# Altium footprint library firmware_tutorial_board.PcbLib: 8 footprints
Each footprint in its own frame and in the unit in brackets; x right, y up, seen from the top. Pads: shape width x height; smd on the part's side, far side on the other; paste and mask are expansions set on the pad; w line width, h text height; cw(c..) or ccw(c..) is an arc to the next point about the centre after c.
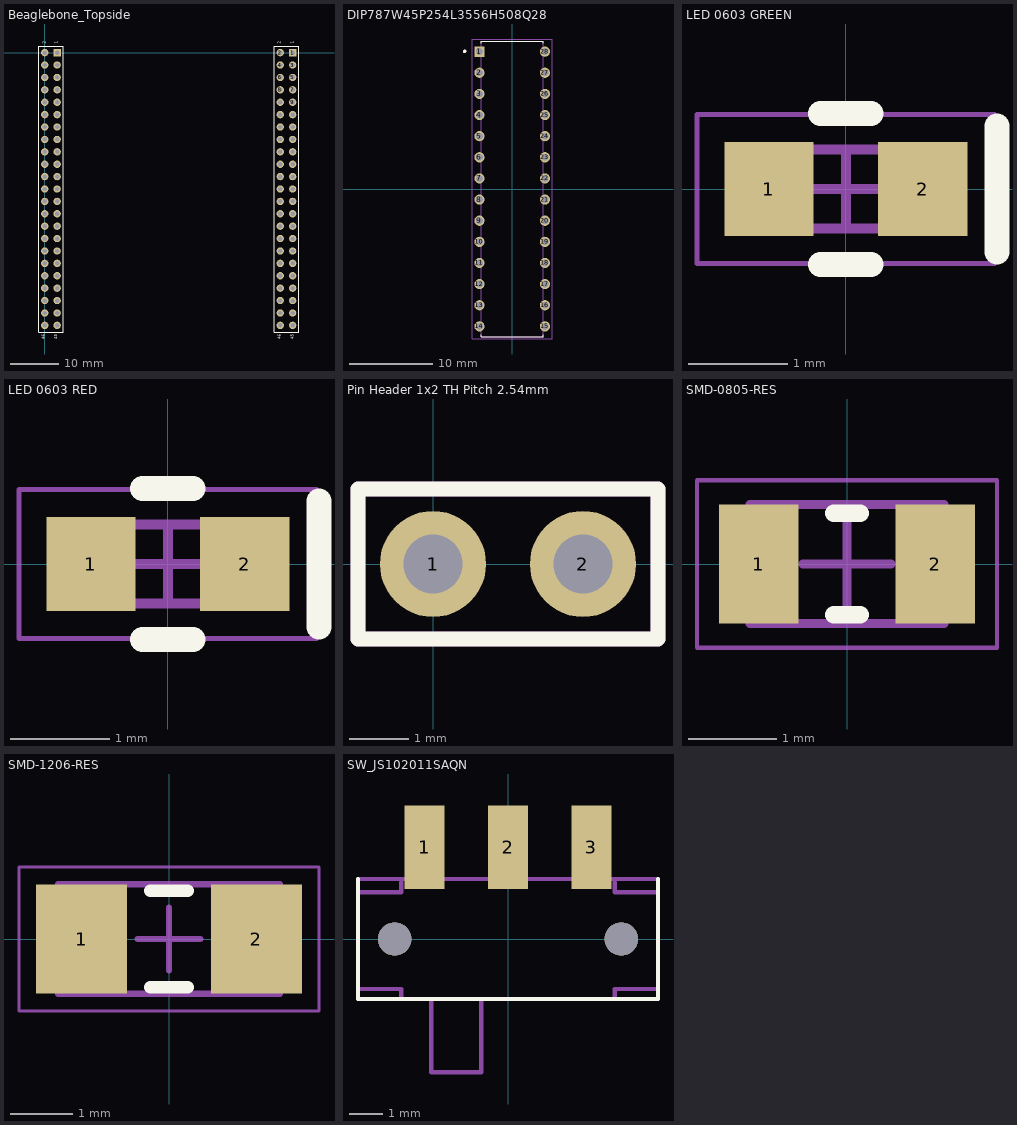
[diagram p0: the footprints below, top view; thin cyan lines are the x and y axes]

## Beaglebone_Topside [mm] "Connector; Header; 24x2 Position"
pads (92):
  rect 1.5x1.5 hole 0.9: 1(50.8,0) 101(2.54,0)
  round 1.5 hole 0.9: 2(48.26,0) 3(50.8,-2.54) 4(48.26,-2.54) 5(50.8,-5.08) 6(48.26,-5.08) 7(50.8,-7.62) 8(48.26,-7.62) 9(50.8,-10.16) 10(48.26,-10.16) 11(50.8,-12.7) 12(48.26,-12.7) 13(50.8,-15.24) 14(48.26,-15.24) 15(50.8,-17.78) 16(48.26,-17.78) 17(50.8,-20.32) 18(48.26,-20.32) 19(50.8,-22.86) 20(48.26,-22.86) 21(50.8,-25.4) 22(48.26,-25.4) 23(50.8,-27.94) 24(48.26,-27.94) 25(50.8,-30.48) 26(48.26,-30.48) 27(50.8,-33.02) 28(48.26,-33.02) 29(50.8,-35.56) 30(48.26,-35.56) 31(50.8,-38.1) 32(48.26,-38.1) 33(50.8,-40.64) 34(48.26,-40.64) 35(50.8,-43.18) 36(48.26,-43.18) 37(50.8,-45.72) 38(48.26,-45.72) 39(50.8,-48.26) 40(48.26,-48.26) 41(50.8,-50.8) 42(48.26,-50.8) 43(50.8,-53.34) 44(48.26,-53.34) 45(50.8,-55.88) 46(48.26,-55.88) 102(0,0) 103(2.54,-2.54) 104(0,-2.54) 105(2.54,-5.08) 106(0,-5.08) 107(2.54,-7.62) 108(0,-7.62) 109(2.54,-10.16) 110(0,-10.16) 111(2.54,-12.7) 112(0,-12.7) 113(2.54,-15.24) 114(0,-15.24) 115(2.54,-17.78) 116(0,-17.78) 117(2.54,-20.32) 118(0,-20.32) 119(2.54,-22.86) 120(0,-22.86) 121(2.54,-25.4) 122(0,-25.4) 123(2.54,-27.94) 124(0,-27.94) 125(2.54,-30.48) 126(0,-30.48) 127(2.54,-33.02) 128(0,-33.02) 129(2.54,-35.56) 130(0,-35.56) 131(2.54,-38.1) 132(0,-38.1) 133(2.54,-40.64) 134(0,-40.64) 135(2.54,-43.18) 136(0,-43.18) 137(2.54,-45.72) 138(0,-45.72) 139(2.54,-48.26) 140(0,-48.26) 141(2.54,-50.8) 142(0,-50.8) 143(2.54,-53.34) 144(0,-53.34) 145(2.54,-55.88) 146(0,-55.88)
Top Overlay:
  lines w0.2: -1.27,-57.277 3.81,-57.277 3.81,1.27 -1.27,1.27 -1.27,-57.277 ; 46.99,-57.277 46.99,1.27 52.07,1.27 52.07,-57.277 46.99,-57.277
  text "2" at 48.514,1.778 h1.02
  text "1" at 51.181,1.778 h1.02
  text "46" at 48.514,-58.674 h1.02
  text "45" at 51.181,-58.674 h1.02
  text "45" at 2.794,-58.674 h1.02
  text "46" at 0.254,-58.674 h1.02
  text "1" at 2.921,1.778 h1.02
  text "2" at 0.381,1.778 h1.02
3D body "BeagleBone Black.SLDPRT": height 15.24, standoff 0.63, extent -1.821,-66.548 52.789,22.352

## DIP787W45P254L3556H508Q28 [mm]
pads (28):
  rect 1.23x1.23 hole 0.82: 1(-3.935,16.51)
  round 1.23 hole 0.82: 2(-3.935,13.97) 3(-3.935,11.43) 4(-3.935,8.89) 5(-3.935,6.35) 6(-3.935,3.81) 7(-3.935,1.27) 8(-3.935,-1.27) 9(-3.935,-3.81) 10(-3.935,-6.35) 11(-3.935,-8.89) 12(-3.935,-11.43) 13(-3.935,-13.97) 14(-3.935,-16.51) 15(3.935,-16.51) 16(3.935,-13.97) 17(3.935,-11.43) 18(3.935,-8.89) 19(3.935,-6.35) 20(3.935,-3.81) 21(3.935,-1.27) 22(3.935,1.27) 23(3.935,3.81) 24(3.935,6.35) 25(3.935,8.89) 26(3.935,11.43) 27(3.935,13.97) 28(3.935,16.51)
Top Overlay:
  circle w0.2: c-5.714,16.544 r0.1
  lines w0.127: -3.75,-17.526 -3.75,-17.78 3.75,-17.78 3.75,-17.526 ; -3.75,17.526 -3.75,17.78 3.75,17.78 3.75,17.526
Mechanical 13:
  circle w0.2: c-5.714,16.544 r0.1
  lines w0.127: -3.75,-17.78 3.75,-17.78 3.75,17.78 -3.75,17.78 -3.75,-17.78
Mechanical 15:
  lines w0.05: -4.8,-18.03 4.8,-18.03 4.8,18.03 -4.8,18.03 -4.8,-18.03

## LED 0603 GREEN [mm] "Chip Diode, 2-Leads, Body 1.60x0.80mm, IPC Medium Density"
height 0.8
pads (2):
  rect 0.9x0.95 smd: 1(-0.775,0) 2(0.775,0)
Top Overlay:
  lines w0.254: -0.254,-0.762 0.254,-0.762 ; -0.254,0.762 0.254,0.762 ; 1.524,-0.635 1.524,0.635
Mechanical 13:
  lines w0.1: -0.8,-0.4 0.8,-0.4 0.8,0.4 -0.8,0.4 -0.8,-0.4
Mechanical 15:
  lines w0.05: -1.5,-0.75 1.5,-0.75 1.5,0.75 -1.5,0.75 -1.5,-0.75
  lines w0.1: -0.4,0 0.4,0 ; 0,-0.4 0,0.4
3D body: height 0.8, standoff 0, extent 0.4,-0.4 0.8,0.4
3D body: height 0.8, standoff 0, extent -0.8,-0.4 -0.4,0.4
3D body: height 0.8, standoff 0, extent -0.4,-0.4 0.4,0.4

## LED 0603 RED [mm] "Chip Diode, 2-Leads, Body 1.60x0.80mm, IPC Medium Density"
height 0.8
pads (2):
  rect 0.9x0.95 smd: 1(-0.775,0) 2(0.775,0)
Top Overlay:
  lines w0.254: -0.254,-0.762 0.254,-0.762 ; -0.254,0.762 0.254,0.762 ; 1.524,-0.635 1.524,0.635
Mechanical 13:
  lines w0.1: -0.8,-0.4 0.8,-0.4 0.8,0.4 -0.8,0.4 -0.8,-0.4
Mechanical 15:
  lines w0.05: -1.5,-0.75 1.5,-0.75 1.5,0.75 -1.5,0.75 -1.5,-0.75
  lines w0.1: -0.4,0 0.4,0 ; 0,-0.4 0,0.4
3D body: height 0.8, standoff 0, extent 0.4,-0.4 0.8,0.4
3D body: height 0.8, standoff 0, extent -0.8,-0.4 -0.4,0.4
3D body: height 0.8, standoff 0, extent -0.4,-0.4 0.4,0.4

## Pin Header 1x2 TH Pitch 2.54mm [mm] "PinHeader 1x2 TH Pitch 2.54mm"
height 9.5
pads (2):
  round 1.8 hole 1: 1(0,0) 2(2.54,0)
Top Overlay:
  lines w0.254: 1.27,1.27 -1.27,1.27 ; -1.27,1.27 3.81,1.27 3.81,-1.27 -1.27,-1.27 -1.27,1.27
Mechanical 3:
  lines w0.254: 1.27,1.27 -1.27,1.27 ; -1.27,1.27 3.81,1.27 3.81,-1.27 -1.27,-1.27 -1.27,1.27
3D body "Pin Header 1x2 TH Pitch 2.54mm.stp": height 9.5, standoff -3.2, extent -1.27,-1.27 3.81,1.27

## SMD-0805-RES [mm]
pads (2):
  rect 0.9x1.35 smd: 1(-1,0) 2(1,0)
Top Overlay:
  lines w0.2: -0.15,-0.575 0.15,-0.575 ; -0.15,0.575 0.15,0.575
Mechanical 13:
  lines w0.1: -1.1,-0.675 1.1,-0.675 1.1,0.675 -1.1,0.675 -1.1,-0.675
Mechanical 15:
  lines w0.05: -1.7,-0.95 1.7,-0.95 1.7,0.95 -1.7,0.95 -1.7,-0.95
  lines w0.1: -0.5,0 0.5,0 ; 0,-0.5 0,0.5
3D body "RESC2012X05N.step": height 0.5, standoff 0, extent -1.1,-0.675 1.1,0.675

## SMD-1206-RES [mm]
pads (2):
  rect 1.45x1.75 smd: 1(-1.4,0) 2(1.4,0)
Top Overlay:
  lines w0.2: -0.3,-0.775 0.3,-0.775 ; -0.3,0.775 0.3,0.775
Mechanical 13:
  lines w0.1: -1.775,-0.875 1.775,-0.875 1.775,0.875 -1.775,0.875 -1.775,-0.875
Mechanical 15:
  lines w0.05: -2.4,-1.15 2.4,-1.15 2.4,1.15 -2.4,1.15 -2.4,-1.15
  lines w0.1: -0.5,0 0.5,0 ; 0,-0.5 0,0.5
3D body "RESC3216X05N.step": height 0.5, standoff 0, extent -1.775,-0.875 1.775,0.875

## SW_JS102011SAQN [mm]
pads (5):
  rect 1.2x2.5 smd: 1(-2.5,2.75) 2(0,2.75) 3(2.5,2.75)
  round 1 hole 1 unplated: ""(-3.4,0) ""(3.4,0)
Top Overlay:
  lines w0.127: -4.5,1.8 -4.5,-1.8 4.5,-1.8 4.5,1.8
Mechanical 13:
  region: -2.2,1.801 -2.801,1.801 -2.801,3.7 -2.2,3.7
  region: -2.2,1.801 -2.801,1.801 -2.801,3.7 -2.2,3.7
  region: 0.3,1.8 -0.3,1.8 -0.3,3.7 0.3,3.7
  region: 2.8,1.803 2.204,1.803 2.204,3.7 2.8,3.7
  lines w0.127: -4.5,-1.5 -3.2,-1.5 -3.2,-1.8 ; -4.5,1.4 -3.2,1.4 -3.2,1.7 ; -4.5,1.8 4.5,1.8 ; -2.3,-1.8 -2.3,-4 -0.8,-4 -0.8,-1.8 ; 3.2,-1.8 3.2,-1.5 4.5,-1.5 ; 3.2,1.7 3.2,1.4 4.5,1.4